# EAGLE library part -LM555 (library res)
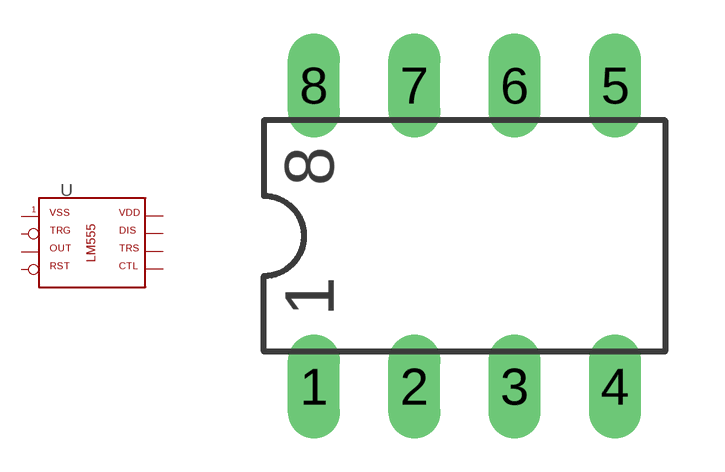
[diagram p17: symbol with the pads of DIL08; footprint DIL08]

Designator prefix -

## -LM555  [DIL08]
1  GND  pwr
2  TRG  pas
3  OUT  out
4  RES  pas
5  CTL  pas
6  TRS  pas
7  DIS  pas
8  VCC  pwr

## Footprint DIL08 (pad centres in mm)
Dual In Line Package
drill 0.813 long: 1 -3.81,-3.81; 2 -1.27,-3.81; 3 1.27,-3.81; 4 3.81,-3.81; 5 3.81,3.81; 6 1.27,3.81; 7 -1.27,3.81; 8 -3.81,3.81